# Altium footprint library PCB - CAPACITOR - CHIP - 10TPE47MAZB.PCBLIB: 1 footprints
Each footprint in its own frame and in the unit in brackets; x right, y up, seen from the top. Pads: shape width x height; smd on the part's side, far side on the other; paste and mask are expansions set on the pad; w line width, h text height; cw(c..) or ccw(c..) is an arc to the next point about the centre after c.
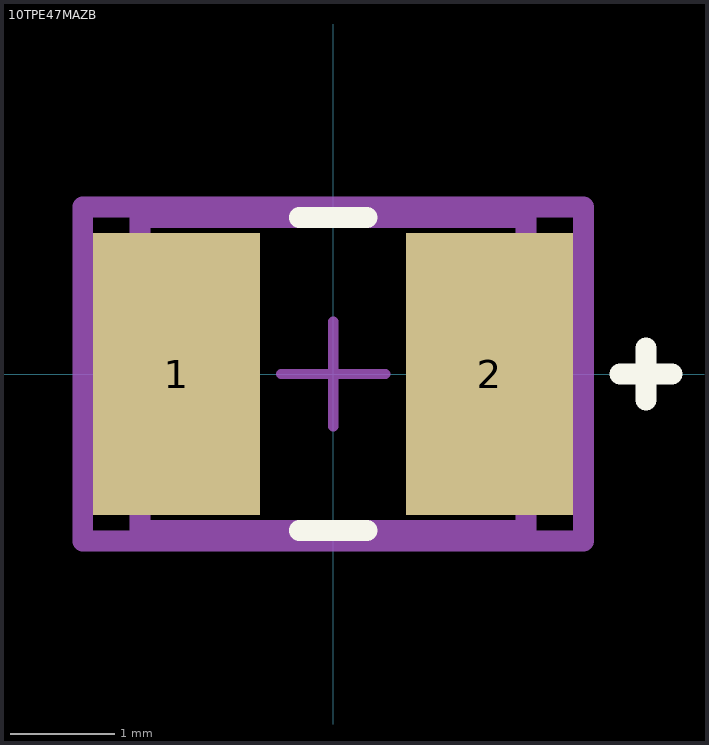
[diagram p0: the footprint, top view; thin cyan lines are the x and y axes]

## 10TPE47MAZB [mm] "Tantalum Capacitors - Polymer 10volts 47uF ESR 35mohm"
pads (2):
  rect 1.6x2.7 smd paste+0 mask+0: 1(-1.5,0) 2(1.5,0)
Top Overlay:
  lines w0.2: -0.325,-1.5 0.325,-1.5 ; -0.325,1.5 0.325,1.5 ; 2.75,0 3.25,0 ; 3,-0.25 3,0.25
M5 Assembly Top:
  lines w0.2: -2.4,-1.6 -2.4,1.6 2.4,1.6 2.4,-1.6 -2.4,-1.6
  text ".Designator" at 0,-0.001 h1
Top Value:
  lines w0.2: -1.85,-1.5 -1.85,1.5 1.85,1.5 1.85,-1.5 -1.85,-1.5
Mechanical 15:
  lines w0.2: -2.4,-1.6 -2.4,1.6 2.4,1.6 2.4,-1.6 -2.4,-1.6
Mechanical 16:
  lines w0.1: -0.5,0 0.5,0 ; 0,-0.5 0,0.5
3D body "Cap_Panasonic_2R5TPE220MFGB_eec.STEP": height 2, standoff 0, extent -1.75,-1.4 1.75,1.4